# Altium schematic symbol library TPS54332.SchLib: 1 symbol
Pins are listed as number, name and electrical type; pins without a type are passive.

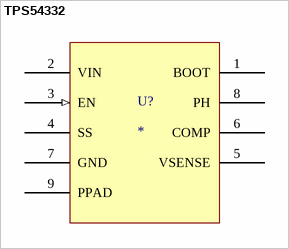
[diagram p0: symbol TPS54332]

## TPS54332
designator U?
pins: 1 BOOT, 2 VIN (power), 3 EN (in), 4 SS, 5 VSENSE, 6 COMP, 7 GND (power), 8 PH, 9 PPAD (power)